# EAGLE library part TXB0106 (library chips)
6 channel level translator
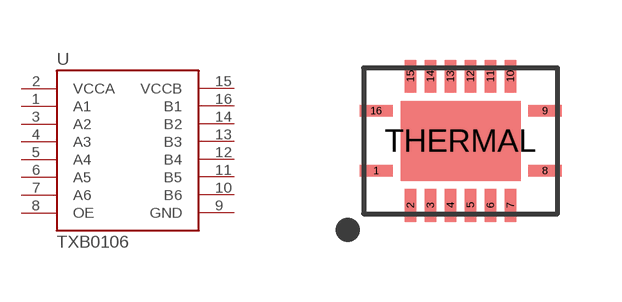
[diagram p57: symbol with the pads of R-PVQFN-N16; footprint R-PVQFN-N16]

Designator prefix -

## TXB0106 (DIGIKEY: 296-23868-2-ND)  [R-PVQFN-N16]
1  A1
2  VCCA
3  A2
4  A3
5  A4
6  A5
7  A6
8  OE
9  GND
10  B6
11  B5
12  B4
13  B3
14  B2
15  VCCB
16  B1

## Footprint R-PVQFN-N16 (pad centres in mm)
smd 0.825 x 0.28: 1 -2.112,-0.75; 8 2.112,-0.75; 9 2.112,0.75; 16 -2.112,0.75
smd 0.28 x 0.825: 2 -1.25,-1.613; 3 -0.75,-1.613; 4 -0.25,-1.613; 5 0.25,-1.613; 6 0.75,-1.613; 7 1.25,-1.613; 10 1.25,1.613; 11 0.75,1.613; 12 0.25,1.613; 13 -0.25,1.613; 14 -0.75,1.613; 15 -1.25,1.613
smd 3 x 2: THERMAL 0,0